# Altium footprint library ECS2520MV250CNTR.PcbLib: 1 footprints
Each footprint in its own frame and in the unit in brackets; x right, y up, seen from the top. Pads: shape width x height; smd on the part's side, far side on the other; paste and mask are expansions set on the pad; w line width, h text height; cw(c..) or ccw(c..) is an arc to the next point about the centre after c.
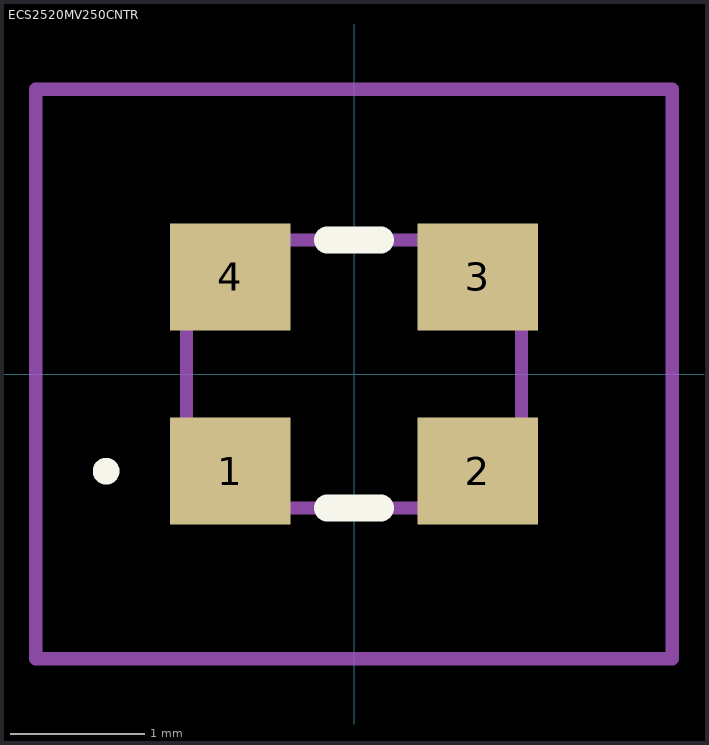
[diagram p0: the footprint, top view; thin cyan lines are the x and y axes]

## ECS2520MV250CNTR [mm]
pads (4):
  rect 0.9x0.8 smd: 1(-0.925,-0.725) 2(0.925,-0.725) 3(0.925,0.725) 4(-0.925,0.725)
Top Overlay:
  lines w0.1: -1.9,-0.725 cw(c-1.85,-0.725) -1.8,-0.725 ; -1.9,-0.725 -1.9,-0.725 ; -1.9,-0.725 ccw(c-1.85,-0.725) -1.8,-0.725 ; -1.8,-0.725 -1.8,-0.725
  lines w0.2: -0.2,-1 0.2,-1 ; -0.2,1 0.2,1
Mechanical 15:
  lines w0.1: -1.25,-1 1.25,-1 1.25,1 -1.25,1 -1.25,-1
Mechanical 20:
  lines w0.1: -2.375,-2.125 2.375,-2.125 2.375,2.125 -2.375,2.125 -2.375,-2.125